# Altium footprint library HC-PZ127-7.2L-2x7PS.PcbLib: 1 footprints
Each footprint in its own frame and in the unit in brackets; x right, y up, seen from the top. Pads: shape width x height; smd on the part's side, far side on the other; paste and mask are expansions set on the pad; w line width, h text height; cw(c..) or ccw(c..) is an arc to the next point about the centre after c.
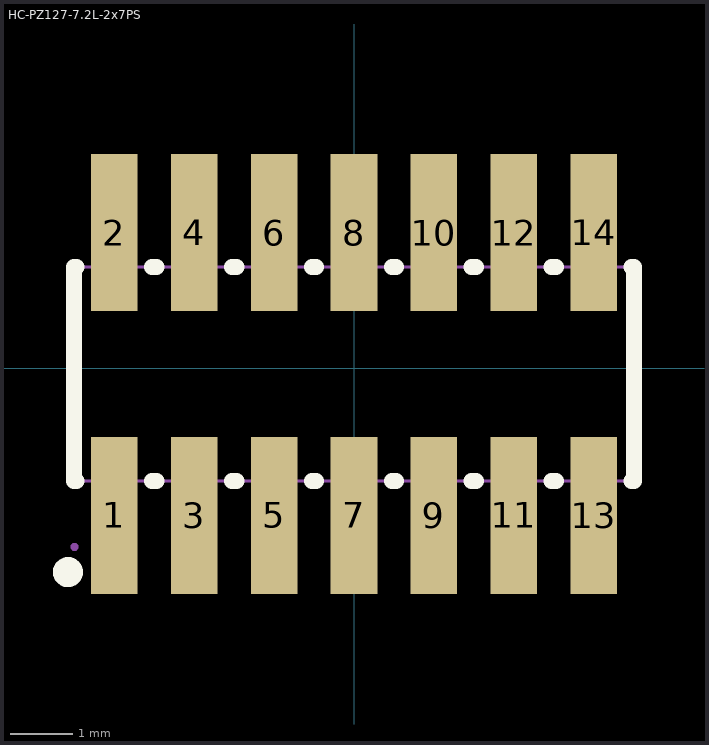
[diagram p0: the footprint, top view; thin cyan lines are the x and y axes]

## HC-PZ127-7.2L-2x7PS [mm]
pads (14):
  rect 0.74x2.5 smd paste+0 mask+0.051: 1(-3.81,-2.341) 2(-3.81,2.159) 3(-2.54,-2.341) 4(-2.54,2.159) 5(-1.27,-2.341) 6(-1.27,2.159) 7(0,-2.341) 8(0,2.159) 9(1.27,-2.341) 10(1.27,2.159) 11(2.54,-2.341) 12(2.54,2.159) 13(3.81,-2.341) 14(3.81,2.159)
Top Overlay:
  circle w0.24: c-4.55,-3.241 r0.12
  lines w0.254: -4.45,1.559 -4.45,-1.791 -4.411,-1.791 ; -4.45,1.609 -4.411,1.609 ; -3.209,-1.791 -3.141,-1.791 ; -3.209,1.609 -3.141,1.609 ; -1.939,-1.791 -1.871,-1.791 ; -1.939,1.609 -1.871,1.609 ; -0.669,-1.791 -0.601,-1.791 ; -0.669,1.609 -0.601,1.609 ; 0.601,-1.791 0.669,-1.791 ; 0.601,1.609 0.669,1.609 ; 1.871,-1.791 1.939,-1.791 ; 1.871,1.609 1.939,1.609 ; 3.141,-1.791 3.209,-1.791 ; 3.141,1.609 3.209,1.609 ; 4.411,-1.791 4.45,-1.791 4.45,1.609 4.411,1.609
Mechanical 15:
  region: -4.385,-2.841 -4.386,-2.817 -4.421,-2.782 -4.47,-2.782 -4.504,-2.817 -4.505,-2.841 -4.504,-2.866 -4.469,-2.9 -4.42,-2.9 -4.386,-2.865 -4.385,-2.841
  region: -3.61,-1.141 -3.61,-2.841 -4.01,-2.841 -4.01,-1.141
  region: -3.61,2.659 -3.61,0.959 -4.01,0.959 -4.01,2.659
  region: -2.34,-1.141 -2.34,-2.841 -2.74,-2.841 -2.74,-1.141
  region: -2.34,2.659 -2.34,0.959 -2.74,0.959 -2.74,2.659
  region: -1.07,-1.141 -1.07,-2.841 -1.47,-2.841 -1.47,-1.141
  region: -1.07,2.659 -1.07,0.959 -1.47,0.959 -1.47,2.659
  region: 0.2,-1.141 0.2,-2.841 -0.2,-2.841 -0.2,-1.141
  region: 0.2,2.659 0.2,0.959 -0.2,0.959 -0.2,2.659
  region: 1.47,-1.141 1.47,-2.841 1.07,-2.841 1.07,-1.141
  region: 1.47,2.659 1.47,0.959 1.07,0.959 1.07,2.659
  region: 2.74,-1.141 2.74,-2.841 2.34,-2.841 2.34,-1.141
  region: 2.74,2.659 2.74,0.959 2.34,0.959 2.34,2.659
  region: 4.01,-1.141 4.01,-2.841 3.61,-2.841 3.61,-1.141
  region: 4.01,2.659 4.01,0.959 3.61,0.959 3.61,2.659
  lines w0.051: -4.445,-1.791 -4.445,1.609 4.445,1.609 4.445,-1.791 -4.445,-1.791